# Altium footprint library LT8722AVPBF.PcbLib: 3 footprints
Each footprint in its own frame and in the unit in brackets; x right, y up, seen from the top. Pads: shape width x height; smd on the part's side, far side on the other; paste and mask are expansions set on the pad; w line width, h text height; cw(c..) or ccw(c..) is an arc to the next point about the centre after c.
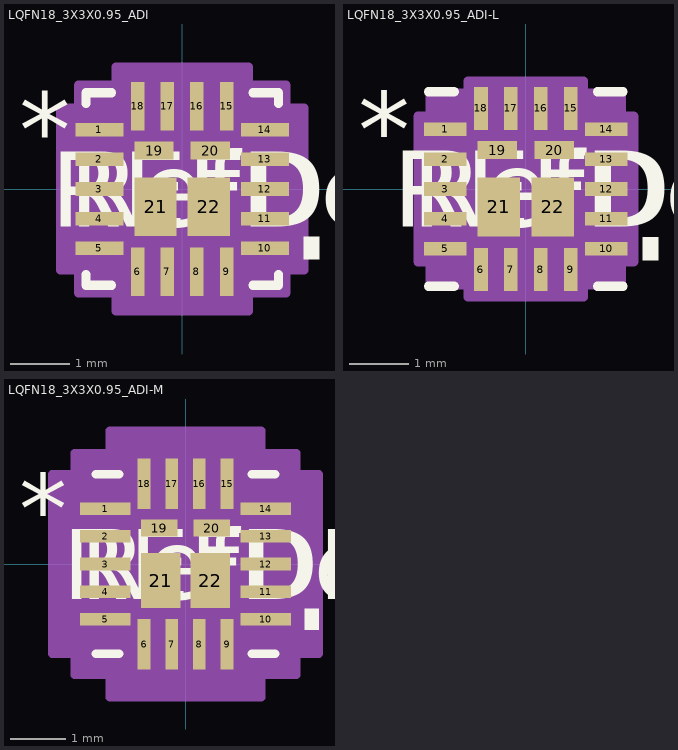
[diagram p0: the footprints below, top view; thin cyan lines are the x and y axes]

## LQFN18_3X3X0.95_ADI [mil]
pads (22):
  rect 32x9 smd paste+0 mask+0: 1(-55,39.37) 2(-55,19.68) 3(-55,0) 4(-55,-19.68) 5(-55,-39.37) 10(55,-39.37) 11(55,-19.68) 12(55,0) 13(55,19.68) 14(55,39.37)
  rect 9x32 smd paste+0 mask+0: 6(-29.53,-55) 7(-9.84,-55) 8(9.84,-55) 9(29.53,-55) 15(29.53,55) 16(9.84,55) 17(-9.84,55) 18(-29.53,55)
  rect 26x12 smd paste+0 mask+0: 19(-18.7,25.6) 20(18.7,25.6)
  rect 28x39 smd paste+0 mask+0: 21(-17.72,-11.81) 22(17.72,-11.81)
Top Overlay:
  region: 81,-31.87 91,-31.87 91,-46.87 81,-46.87
  lines w6: -64,-56.97 -64,-64 -47.13,-64 ; -64,56.97 -64,64 -47.13,64 ; 47.13,-64 64,-64 64,-56.97 ; 47.13,64 64,64 64,56.97
  text "*" at -108.5,14.37 h50
  text "RefDes" at -75,-25 h50
  text "REFDES" at -87.5,-25 h50
Mechanical 13:
  lines w1: -59,9 -9,59 ; -59,-44.87 -59,-33.87 ; -59,-44.87 -59,-33.87 ; -59,-44.87 -59,-44.87 ; -59,-33.87 -59,-33.87 ; -59,-25.18 -59,-14.19 ; -59,-25.18 -59,-14.19 ; -59,-25.18 -59,-25.18 ; -59,-14.19 -59,-14.19 ; -59,-5.5 -59,5.5 ; -59,-5.5 -59,5.5 ; -59,-5.5 -59,-5.5 ; -59,5.5 -59,5.5 ; -59,14.19 -59,25.18 ; -59,14.19 -59,25.18 ; -59,14.19 -59,14.19 ; -59,25.18 -59,25.18 ; -59,33.87 -59,44.87 ; -59,33.87 -59,44.87 ; -59,33.87 -59,33.87 ; -59,44.87 -59,44.87 ; -35.03,-59 -24.03,-59 ; -35.03,-59 -35.03,-59 ; -35.03,-59 -24.03,-59 ; -35.03,59 -24.03,59 ; -35.03,59 -24.03,59 ; -35.03,59 -35.03,59 ; -24.03,-59 -24.03,-59 ; -24.03,59 -24.03,59 ; -15.34,-59 -4.34,-59 ; -15.34,-59 -15.34,-59 ; -15.34,-59 -4.34,-59 ; -15.34,59 -4.34,59 ; -15.34,59 -4.34,59 ; -15.34,59 -15.34,59 ; -4.34,-59 -4.34,-59 ; -4.34,59 -4.34,59 ; 4.34,-59 15.34,-59 ; 4.34,-59 4.34,-59 ; 4.34,-59 15.34,-59 ; 4.34,59 15.34,59 ; 4.34,59 15.34,59 ; 4.34,59 4.34,59 ; 15.34,-59 15.34,-59 ; 15.34,59 15.34,59 ; 24.03,-59 35.03,-59 ; 24.03,-59 24.03,-59 ; 24.03,-59 35.03,-59 ; 24.03,59 35.03,59 ; 24.03,59 35.03,59 ; 24.03,59 24.03,59 ; 35.03,-59 35.03,-59 ; 35.03,59 35.03,59 ; 59,-44.87 59,-33.87 ; 59,-44.87 59,-44.87 ; 59,-44.87 59,-33.87 ; 59,-33.87 59,-33.87 ; 59,-25.18 59,-14.19 ; 59,-25.18 59,-25.18 ; 59,-25.18 59,-14.19 ; 59,-14.19 59,-14.19 ; 59,-5.5 59,5.5 ; 59,-5.5 59,-5.5 ; 59,-5.5 59,5.5 ; 59,5.5 59,5.5 ; 59,14.19 59,25.18 ; 59,14.19 59,14.19 ; 59,14.19 59,25.18 ; 59,25.18 59,25.18 ; 59,33.87 59,44.87 ; 59,33.87 59,33.87 ; 59,33.87 59,44.87 ; 59,44.87 59,44.87 ; -59,-59 59,-59 59,59 -59,59 -59,-59
  text "*" at -26.5,14.37 h50
  text "RefDes2" at -87.5,-25 h50
Mechanical 15:
  region: -44.03,-69 -69,-69 -69,-53.87 -81,-53.87 -81,53.87 -69,53.87 -69,69 -44.03,69 -44.03,81 44.03,81 44.03,69 69,69 69,53.87 81,53.87 81,-53.87 69,-53.87 69,-69 44.03,-69 44.03,-81 -44.03,-81
  lines w6: -81,-53.87 -69,-53.87 -69,-69 -44.03,-69 -44.03,-81 44.03,-81 44.03,-69 69,-69 69,-53.87 81,-53.87 81,53.87 69,53.87 69,69 44.03,69 44.03,81 -44.03,81 -44.03,69 -69,69 -69,53.87 -81,53.87 -81,-53.87
3D body "LQFN18_3X3X095_ADI.step": height 41.1, standoff 0, extent -59.02,-59.02 59.02,59.02

## LQFN18_3X3X0.95_ADI-L [mil]
pads (22):
  rect 28x9 smd paste+0 mask+0: 1(-53,39.37) 2(-53,19.68) 3(-53,0) 4(-53,-19.68) 5(-53,-39.37) 10(53,-39.37) 11(53,-19.68) 12(53,0) 13(53,19.68) 14(53,39.37)
  rect 9x28 smd paste+0 mask+0: 6(-29.53,-53) 7(-9.84,-53) 8(9.84,-53) 9(29.53,-53) 15(29.53,53) 16(9.84,53) 17(-9.84,53) 18(-29.53,53)
  rect 26x12 smd paste+0 mask+0: 19(-18.7,25.6) 20(18.7,25.6)
  rect 28x39 smd paste+0 mask+0: 21(-17.72,-11.81) 22(17.72,-11.81)
Top Overlay:
  region: 77,-31.87 87,-31.87 87,-46.87 77,-46.87
  lines w6: -64,-64 -47.13,-64 ; -64,64 -47.13,64 ; 47.13,-64 64,-64 ; 47.13,64 64,64
  text "*" at -110.5,14.37 h50
  text "RefDes" at -75,-25 h50
  text "REFDES" at -87.5,-25 h50
Mechanical 13:
  lines w1: -59,9 -9,59 ; -59,-44.87 -59,-33.87 ; -59,-44.87 -59,-33.87 ; -59,-44.87 -59,-44.87 ; -59,-33.87 -59,-33.87 ; -59,-25.18 -59,-14.19 ; -59,-25.18 -59,-14.19 ; -59,-25.18 -59,-25.18 ; -59,-14.19 -59,-14.19 ; -59,-5.5 -59,5.5 ; -59,-5.5 -59,5.5 ; -59,-5.5 -59,-5.5 ; -59,5.5 -59,5.5 ; -59,14.19 -59,25.18 ; -59,14.19 -59,25.18 ; -59,14.19 -59,14.19 ; -59,25.18 -59,25.18 ; -59,33.87 -59,44.87 ; -59,33.87 -59,44.87 ; -59,33.87 -59,33.87 ; -59,44.87 -59,44.87 ; -35.03,-59 -24.03,-59 ; -35.03,-59 -35.03,-59 ; -35.03,-59 -24.03,-59 ; -35.03,59 -24.03,59 ; -35.03,59 -24.03,59 ; -35.03,59 -35.03,59 ; -24.03,-59 -24.03,-59 ; -24.03,59 -24.03,59 ; -15.34,-59 -4.34,-59 ; -15.34,-59 -15.34,-59 ; -15.34,-59 -4.34,-59 ; -15.34,59 -4.34,59 ; -15.34,59 -4.34,59 ; -15.34,59 -15.34,59 ; -4.34,-59 -4.34,-59 ; -4.34,59 -4.34,59 ; 4.34,-59 15.34,-59 ; 4.34,-59 4.34,-59 ; 4.34,-59 15.34,-59 ; 4.34,59 15.34,59 ; 4.34,59 15.34,59 ; 4.34,59 4.34,59 ; 15.34,-59 15.34,-59 ; 15.34,59 15.34,59 ; 24.03,-59 35.03,-59 ; 24.03,-59 24.03,-59 ; 24.03,-59 35.03,-59 ; 24.03,59 35.03,59 ; 24.03,59 35.03,59 ; 24.03,59 24.03,59 ; 35.03,-59 35.03,-59 ; 35.03,59 35.03,59 ; 59,-44.87 59,-33.87 ; 59,-44.87 59,-44.87 ; 59,-44.87 59,-33.87 ; 59,-33.87 59,-33.87 ; 59,-25.18 59,-14.19 ; 59,-25.18 59,-25.18 ; 59,-25.18 59,-14.19 ; 59,-14.19 59,-14.19 ; 59,-5.5 59,5.5 ; 59,-5.5 59,-5.5 ; 59,-5.5 59,5.5 ; 59,5.5 59,5.5 ; 59,14.19 59,25.18 ; 59,14.19 59,14.19 ; 59,14.19 59,25.18 ; 59,25.18 59,25.18 ; 59,33.87 59,44.87 ; 59,33.87 59,33.87 ; 59,33.87 59,44.87 ; 59,44.87 59,44.87 ; -59,-59 59,-59 59,59 -59,59 -59,-59
  text "*" at -20.5,14.37 h50
  text "RefDes2" at -87.5,-25 h50
Mechanical 15:
  region: -38.03,-63 -63,-63 -63,-47.87 -71,-47.87 -71,47.87 -63,47.87 -63,63 -38.03,63 -38.03,71 38.03,71 38.03,63 63,63 63,47.87 71,47.87 71,-47.87 63,-47.87 63,-63 38.03,-63 38.03,-71 -38.03,-71
  lines w6: -71,-47.87 -63,-47.87 -63,-63 -38.03,-63 -38.03,-71 38.03,-71 38.03,-63 63,-63 63,-47.87 71,-47.87 71,47.87 63,47.87 63,63 38.03,63 38.03,71 -38.03,71 -38.03,63 -63,63 -63,47.87 -71,47.87 -71,-47.87
3D body: height 10, standoff 0, extent 0,0 10,10

## LQFN18_3X3X0.95_ADI-M [mil]
pads (22):
  rect 36x9 smd paste+0 mask+0: 1(-57,39.37) 2(-57,19.68) 3(-57,0) 4(-57,-19.68) 5(-57,-39.37) 10(57,-39.37) 11(57,-19.68) 12(57,0) 13(57,19.68) 14(57,39.37)
  rect 9x36 smd paste+0 mask+0: 6(-29.53,-57) 7(-9.84,-57) 8(9.84,-57) 9(29.53,-57) 15(29.53,57) 16(9.84,57) 17(-9.84,57) 18(-29.53,57)
  rect 26x12 smd paste+0 mask+0: 19(-18.7,25.6) 20(18.7,25.6)
  rect 28x39 smd paste+0 mask+0: 21(-17.72,-11.81) 22(17.72,-11.81)
Top Overlay:
  region: 85,-31.87 95,-31.87 95,-46.87 85,-46.87
  lines w6: -64,-64 -47.13,-64 ; -64,64 -47.13,64 ; 47.13,-64 64,-64 ; 47.13,64 64,64
  text "*" at -118.5,14.37 h50
  text "RefDes" at -75,-25 h50
  text "REFDES" at -87.5,-25 h50
Mechanical 13:
  lines w1: -59,9 -9,59 ; -59,-44.87 -59,-33.87 ; -59,-44.87 -59,-33.87 ; -59,-44.87 -59,-44.87 ; -59,-33.87 -59,-33.87 ; -59,-25.18 -59,-14.19 ; -59,-25.18 -59,-14.19 ; -59,-25.18 -59,-25.18 ; -59,-14.19 -59,-14.19 ; -59,-5.5 -59,5.5 ; -59,-5.5 -59,5.5 ; -59,-5.5 -59,-5.5 ; -59,5.5 -59,5.5 ; -59,14.19 -59,25.18 ; -59,14.19 -59,25.18 ; -59,14.19 -59,14.19 ; -59,25.18 -59,25.18 ; -59,33.87 -59,44.87 ; -59,33.87 -59,44.87 ; -59,33.87 -59,33.87 ; -59,44.87 -59,44.87 ; -35.03,-59 -24.03,-59 ; -35.03,-59 -35.03,-59 ; -35.03,-59 -24.03,-59 ; -35.03,59 -24.03,59 ; -35.03,59 -24.03,59 ; -35.03,59 -35.03,59 ; -24.03,-59 -24.03,-59 ; -24.03,59 -24.03,59 ; -15.34,-59 -4.34,-59 ; -15.34,-59 -15.34,-59 ; -15.34,-59 -4.34,-59 ; -15.34,59 -4.34,59 ; -15.34,59 -4.34,59 ; -15.34,59 -15.34,59 ; -4.34,-59 -4.34,-59 ; -4.34,59 -4.34,59 ; 4.34,-59 15.34,-59 ; 4.34,-59 4.34,-59 ; 4.34,-59 15.34,-59 ; 4.34,59 15.34,59 ; 4.34,59 15.34,59 ; 4.34,59 4.34,59 ; 15.34,-59 15.34,-59 ; 15.34,59 15.34,59 ; 24.03,-59 35.03,-59 ; 24.03,-59 24.03,-59 ; 24.03,-59 35.03,-59 ; 24.03,59 35.03,59 ; 24.03,59 35.03,59 ; 24.03,59 24.03,59 ; 35.03,-59 35.03,-59 ; 35.03,59 35.03,59 ; 59,-44.87 59,-33.87 ; 59,-44.87 59,-44.87 ; 59,-44.87 59,-33.87 ; 59,-33.87 59,-33.87 ; 59,-25.18 59,-14.19 ; 59,-25.18 59,-25.18 ; 59,-25.18 59,-14.19 ; 59,-14.19 59,-14.19 ; 59,-5.5 59,5.5 ; 59,-5.5 59,-5.5 ; 59,-5.5 59,5.5 ; 59,5.5 59,5.5 ; 59,14.19 59,25.18 ; 59,14.19 59,14.19 ; 59,14.19 59,25.18 ; 59,25.18 59,25.18 ; 59,33.87 59,44.87 ; 59,33.87 59,33.87 ; 59,33.87 59,44.87 ; 59,44.87 59,44.87 ; -59,-59 59,-59 59,59 -59,59 -59,-59
  text "*" at -20.5,14.37 h50
  text "RefDes2" at -87.5,-25 h50
Mechanical 15:
  region: -54.03,-79 -79,-79 -79,-63.87 -95,-63.87 -95,63.87 -79,63.87 -79,79 -54.03,79 -54.03,95 54.03,95 54.03,79 79,79 79,63.87 95,63.87 95,-63.87 79,-63.87 79,-79 54.03,-79 54.03,-95 -54.03,-95
  lines w6: -95,-63.87 -79,-63.87 -79,-79 -54.03,-79 -54.03,-95 54.03,-95 54.03,-79 79,-79 79,-63.87 95,-63.87 95,63.87 79,63.87 79,79 54.03,79 54.03,95 -54.03,95 -54.03,79 -79,79 -79,63.87 -95,63.87 -95,-63.87
3D body: height 10, standoff 0, extent 0,0 10,10